# Altium footprint library Connector.PcbLib: 170 footprints (part 7 of 11)
Each footprint in its own frame and in the unit in brackets; x right, y up, seen from the top. Pads: shape width x height; smd on the part's side, far side on the other; paste and mask are expansions set on the pad; w line width, h text height; cw(c..) or ccw(c..) is an arc to the next point about the centre after c.
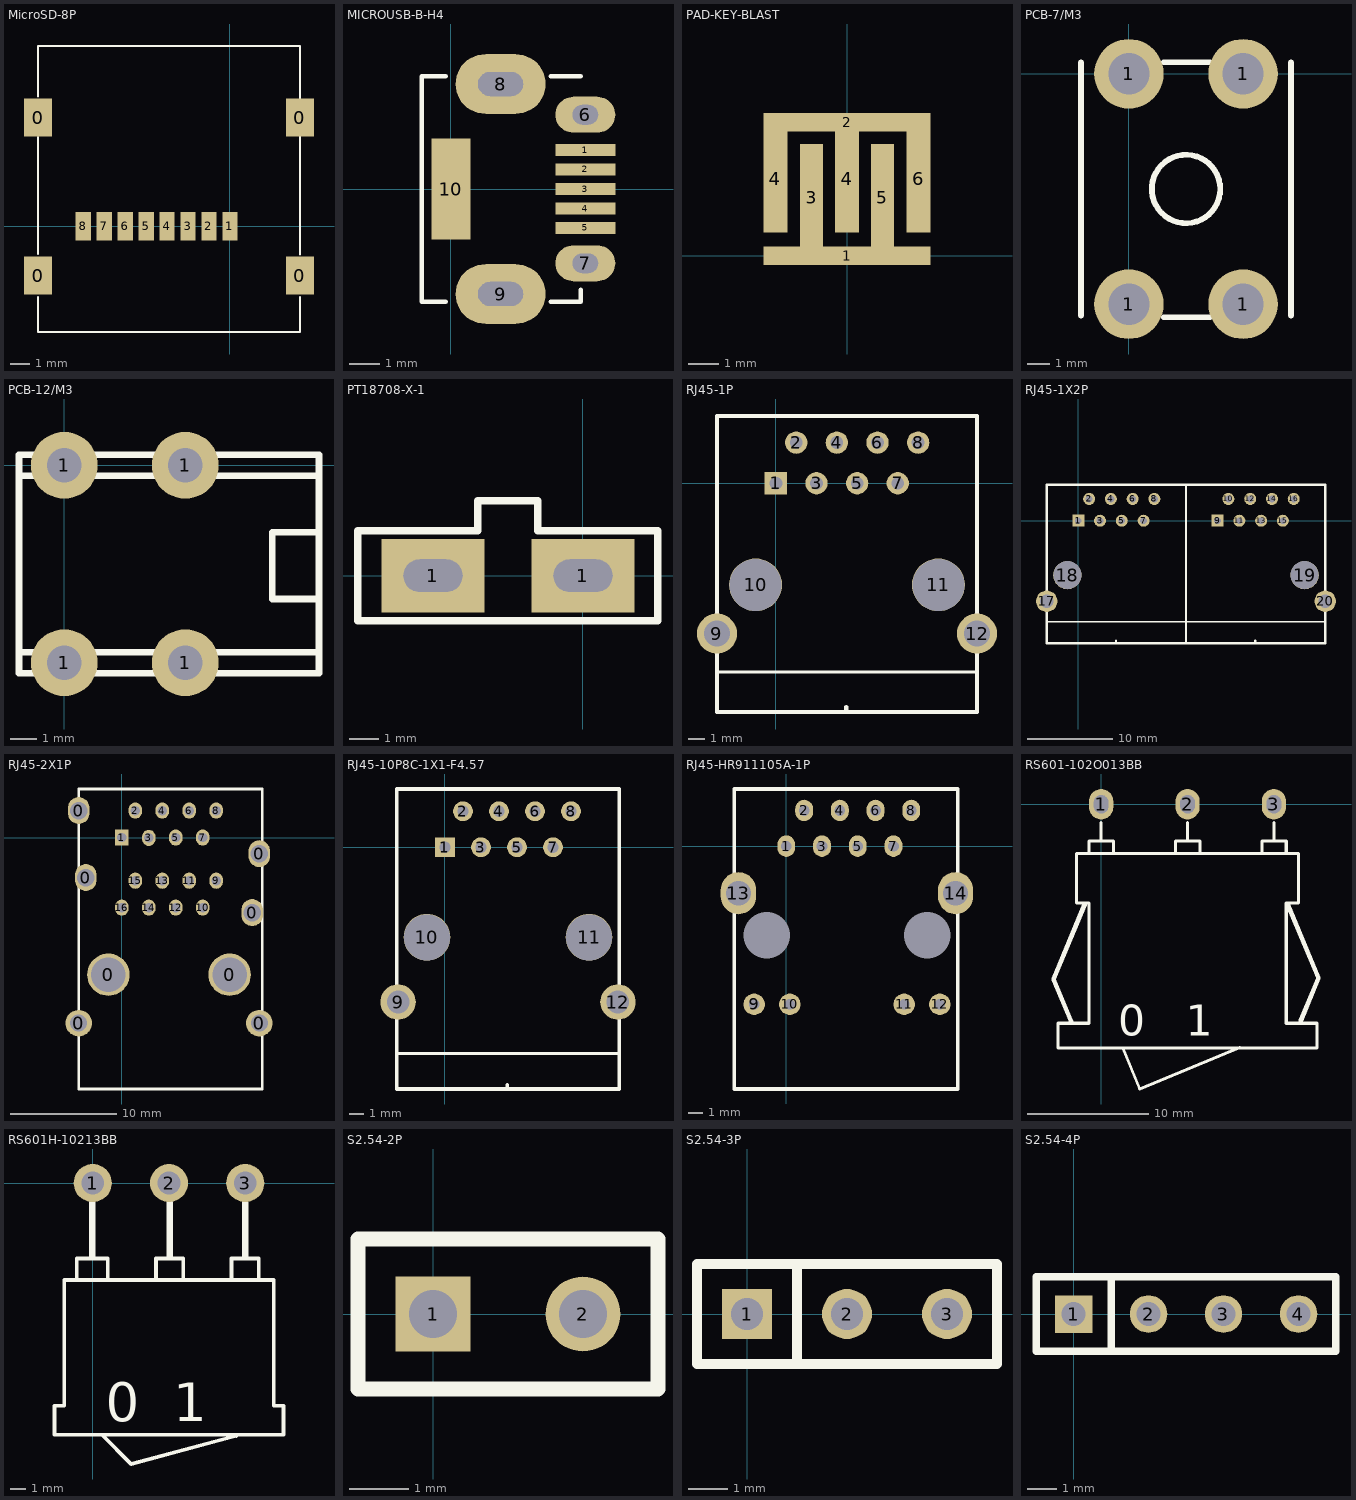
[diagram p6: the footprints below, top view; thin cyan lines are the x and y axes]

## MicroSD-8P [mm]
pads (12):
  rect 1.45x2 smd: 0(-10.075,-2.6) 0(-10.075,5.7) 0(3.675,-2.6) 0(3.675,5.7)
  rect 0.8x1.5 smd: 1(0,0) 2(-1.1,0) 3(-2.2,0) 4(-3.3,0) 5(-4.4,0) 6(-5.5,0) 7(-6.6,0) 8(-7.7,0)
Top Overlay:
  lines w0.1: -10.075,-3.725 -10.075,-5.55 3.675,-5.55 3.675,-3.716 ; -10.075,-1.473 -10.075,4.674 ; -10.075,6.816 -10.075,9.45 3.675,9.45 3.675,6.7 ; 3.675,-1.499 3.675,4.699

## MICROUSB-B-H4 [mm]
pads (10):
  rect 2x0.4 smd: 1(4.48,1.3) 2(4.48,0.65) 3(4.48,0) 4(4.48,-0.65) 5(4.48,-1.3)
  oval 2x1.2 / inner round 1.524 / far side oval 2x1.2 hole 0.65 slot 0.85 at 0 deg: 6(4.48,2.475) 7(4.48,-2.475)
  oval 3x2 / inner round 1.524 / far side oval 3x2 hole 0.8 slot 1.5 at 0 deg: 8(1.655,3.5) 9(1.655,-3.5)
  rect 1.3x3.35 smd: 10(0,0)
Top Overlay:
  lines w0.15: -0.17,-3.75 -0.97,-3.75 -0.97,3.75 -0.17,3.75 ; 3.33,-3.75 4.33,-3.75 4.33,-3.35 ; 3.33,3.75 4.33,3.75

## PAD-KEY-BLAST [mil]
pads (7):
  rect 216.54x23.62 smd: 1(0,0)
  rect 216.54x23.62 smd paste+0: 2(0,173.23)
  rect 29.5x140 smd: 3(-46,75) 5(46,75)
  rect 31x140 smd: 4(-93,100) 4(0,100) 6(93,100)
Top Solder:
  rectangle: -112.27,5 112.27,160

## PCB-7/M3 [mm] "PCB焊接端子"
pads (4):
  round 3.048 hole 1.8: 1(0,-10.1) 1(0,0) 1(5,-10.1) 1(5,0)
Top Overlay:
  circle w0.254: c2.5,-5.05 r1.5
  lines w0.254: -2.1,-10.6 -2.1,0.5 ; 1.524,-10.668 3.556,-10.668 ; 1.524,0.508 3.556,0.508 ; 7.1,-10.6 7.1,0.5
3D body: height 8.5, standoff 0, extent -2.159,-10.668 7.112,0.508

## PCB-12/M3 [mm]
pads (4):
  round 2.54 hole 1.321: 1(0,-7.5) 1(0,0) 1(4.6,-7.5) 1(4.6,0)
Top Overlay:
  lines w0.254: -1.72,-7.1 9.68,-7.1 ; -1.72,-0.4 9.68,-0.4 ; 9.68,-5.08 7.9,-5.08 7.9,-2.54 8.408,-2.54 9.68,-2.54 ; -1.72,-7.9 9.68,-7.9 9.68,0.4 -1.72,0.4 -1.72,-7.9
3D body: height 8, standoff 0, extent -1.778,-7.493 9.652,0

## PT18708-X-1 [mm]
height 22.7
pads (2):
  rect 3.5x2.5 hole 1.1 slot 2 at 0 deg: 1(-5.08,0) 1(0,0)
Top Overlay:
  lines w0.254: -7.62,-1.524 2.54,-1.524 2.54,1.524 -1.524,1.524 -1.524,2.54 -3.556,2.54 -3.556,1.524 -7.62,1.524 -7.62,-1.524
3D body: height 3, standoff 0, extent -3.429,0.635 -1.651,1.651
3D body: height 8, standoff 0, extent -5.08,-0.635 0,0.635
3D body: height 2, standoff 0, extent -6.858,-0.635 1.778,0.635

## RJ45-1P [mil] "RJ45-1"
pads (12):
  rect 55x55 hole 31.5: 1(0,0)
  round 55 hole 31.5: 2(50,100) 3(100,0) 4(150,100) 5(200,0) 6(250,100) 7(300,0) 8(350,100)
  round 98.42 hole 62.99: 9(-145,-370) 12(495,-370)
  round 130 hole 127.95 unplated: 10(-50,-250) 11(400,-250)
Top Overlay:
  lines w8: -141.73,-464.57 488.19,-464.57
  lines w10: 173.23,-559.06 173.23,-551.18 ; 495,165 495,-370 495,-562.99 -145,-562.99 -145,-370 -145,165 -144.65,165.35 495,165.35
3D body "Mod-Jack-K122449007-Stig-W.STEP": height 127.85, standoff -555.12, extent -139.92,-556.17 490,172.17

## RJ45-1X2P [mil] "RJ45-1x2"
pads (20):
  rect 55x55 hole 31.5: 1(0,0) 9(640,0)
  round 55 hole 31.5: 2(50,100) 3(100,0) 4(150,100) 5(200,0) 6(250,100) 7(300,0) 8(350,100) 10(690,100) 11(740,0) 12(790,100) 13(840,0) 14(890,100) 15(940,0) 16(990,100)
  round 98.42 hole 62.99: 17(-145,-370) 20(1135,-370)
  round 130 hole 127.95 unplated: 18(-50,-250) 19(1040,-250)
Top Overlay:
  lines w8: -141.73,-464.57 488.19,-464.57 ; 498.27,-464.57 1128.19,-464.57
  lines w10: 173.23,-559.06 173.23,-551.18 ; 495,165.35 -144.65,165.35 -145,165 -145,-370 -145,-562.99 495,-562.99 ; 813.23,-559.06 813.23,-551.18 ; 1135,165 1135,-370 1135,-562.99 495,-562.99 ; 1135,165.35 495.35,165.35 495,165 ; 495,-562.99 495,-370 ; 495,-562.99 495,-370 ; 495,-370 495,165 ; 495,-370 495,165
3D body "Mod-Jack-K122449007-Stig-W.STEP": height 127.85, standoff -555.12, extent 500.08,-556.17 1130,172.17
3D body "Mod-Jack-K122449007-Stig-W.STEP": height 127.85, standoff -555.12, extent -139.92,-556.17 490,172.17

## RJ45-2X1P [mil] "RJ45-2x1"
pads (24):
  round 98.43 hole 62.99: 0(-159.84,-688.58) 0(509.84,-688.58)
  oval 80x100 hole 65: 0(-159.84,100) 0(-133.66,-148.43) 0(483.66,-278.35) 0(509.84,-59.84)
  round 157.48 hole 127.95: 0(-50,-508.66) 0(400,-508.66)
  rect 50x60 hole 35: 1(0,0)
  oval 50x60 hole 35: 2(50,100) 3(100,-1.34) 4(150,100) 5(200,0) 6(250,100) 7(300,0) 8(350,100) 9(350,-160) 10(300,-260) 11(250,-160) 12(200,-260) 13(150,-160) 14(100,-260) 15(50,-160) 16(0,-260)
Top Overlay:
  lines w10: -159.84,-930.24 -159.84,180 520.87,180 520.87,-930.24 ; 140.16,-932.68 -159.84,-932.68 520.87,-932.68
3D body "2x1rj45.stp": height 994.09, standoff 0, extent -163.7,-925.12 517.01,185.12

## RJ45-10P8C-1X1-F4.57 [mm] "东莞迅旺 1X1 8PIN脚 非隔离不带灯XW-902-59-B-1"
pads (12):
  rect 1.397x1.397 hole 0.8: 1(0,0)
  round 1.397 hole 0.8: 2(1.27,2.54) 3(2.54,0) 4(3.81,2.54) 5(5.08,0) 6(6.35,2.54) 7(7.62,0) 8(8.89,2.54)
  round 2.5 hole 1.6: 9(-3.305,-10.92) 12(12.195,-10.92)
  round 3.302 hole 3.25 unplated: 10(-1.27,-6.35) 11(10.16,-6.35)
Top Overlay:
  lines w0.203: -3.405,-14.55 12.24,-14.55
  lines w0.254: 4.4,-16.95 4.4,-16.75 ; -3.405,4.101 -3.396,4.11 ; -3.405,4.101 -3.405,-9.398 -3.405,-17.05 12.295,-17.05 12.295,-9.398 12.295,4.11 -3.396,4.11 ; -3.405,4.101 -3.396,4.11
3D body "Mod-Jack-K122449007-Stig-W.STEP": height 3.25, standoff -14.1, extent -3.554,-14.127 12.446,4.373

## RJ45-HR911105A-1P [mil] "RJ45-HR911105A"
pads (16):
  oval 50x60 hole 30: 1(0,0) 2(50,100) 3(100,0) 4(150,100) 5(200,0) 6(250,100) 7(300,0) 8(350,100)
  round 60 hole 30: 9(-90,-442.91) 10(10,-442.91) 11(330,-442.91) 12(430,-442.91)
  oval 99.37x118.11 hole 69.37: 13(-133.94,-131.81)
  oval 98.43x118.11 hole 69.37: 14(473.94,-131.81)
  round 60 hole 129.92: ""(-55,-250) ""(395,-250)
Top Overlay:
  lines w10: -145.43,-680 -145.43,160 479.57,160 479.57,-680 -145.43,-680
3D body "Mod-Jack-K122449007-Stig-W.STEP": height 127.85, standoff -555.12, extent -140.83,-558.35 489.09,170

## RS601-102O013BB [mm]
height 0.025
pads (3):
  oval 2x2.5 hole 1.2 slot 1.5 at 91 deg: 1(0,0) 2(7.112,0) 3(14.224,0)
Top Overlay:
  lines w0.254: -0.986,-4.064 -0.986,-3.048 1.016,-3.048 1.016,-4.064 ; 0,-3.048 0,-1.524 ; 1.778,-20.066 3.179,-23.448 11.417,-20.035 ; 6.126,-4.064 6.126,-3.048 8.128,-3.048 8.128,-4.064 ; 7.112,-3.048 7.112,-1.524 ; 13.238,-4.064 13.238,-3.048 15.24,-3.048 15.24,-4.064 ; 14.224,-3.048 14.224,-1.524 ; -3.556,-20.066 -3.556,-18.034 -1.016,-18.034 -1.016,-8.128 -2.032,-8.128 -2.032,-4.064 16.256,-4.064 16.256,-8.128 15.24,-8.128 15.24,-18.034 17.78,-18.034 17.78,-20.066 -3.556,-20.066
  lines w0.381: -2.486,-17.866 -3.917,-14.413 -1.359,-8.237 ; 15.375,-8.242 17.887,-14.307 16.428,-17.83
  text "0   1" at 1.397,-19.05 h2.54

## RS601H-10213BB [mm]
height 12.5
pads (3):
  round 2.5 hole 1.5: 1(0,0) 2(5,0) 3(10,0)
Top Overlay:
  lines w0.254: -1.875,-6.35 -1.875,-14.605 -2.51,-14.605 -2.51,-16.51 12.51,-16.51 12.51,-14.605 11.875,-14.605 11.875,-6.35 ; -1.811,-6.35 11.778,-6.35 ; -1.049,-6.35 -1.049,-4.953 0.983,-4.953 0.983,-6.35 ; 0.602,-16.51 2.52,-18.428 9.409,-16.582 ; 4.158,-6.35 4.158,-4.953 5.936,-4.953 5.936,-6.35 ; 9.111,-6.35 9.111,-4.953 10.889,-4.953 10.889,-6.35
  lines w0.4: -0.033,-4.826 -0.033,-1.27 ; 5.047,-4.826 5.047,-1.27 ; 10,-4.826 10,-1.27
  text "0  1" at 0.856,-15.621 h2.54

## S2.54-2P [mil]
pads (2):
  rect 50x50 hole 32: 1(0,0)
  round 50 hole 32: 2(100,0)
Top Overlay:
  lines w10: -50,-50 -50,50 150,50 150,-50 -50,-50
3D body: height 314.96, standoff -78.74, extent 84,-16 115.37,15.43
3D body: height 314.96, standoff -78.74, extent -16,-16 15.37,15.43
3D body: height 100, standoff 0, extent -50,-50 150,50

## S2.54-3P [mil] "P-SIP5"
pads (3):
  rect 50x50 hole 32: 1(0,0)
  round 50 hole 32: 2(100,0) 3(200,0)
Top Overlay:
  lines w10: 50,-50 50,50 ; -50,-50 250,-50 250,50 -50,50 -50,-50
3D body: height 100, standoff 0, extent -50,-50 250,50
3D body: height 314.96, standoff -78.74, extent -16,-16 15.37,15.43
3D body: height 314.96, standoff -78.74, extent 84,-16 115.37,15.43
3D body: height 314.96, standoff -78.74, extent 184,-16 215.37,15.43

## S2.54-4P [mil] "P-SIP5"
pads (4):
  rect 50x50 hole 32: 1(0,0)
  round 50 hole 32: 2(100,0) 3(200,0) 4(300,0)
Top Overlay:
  lines w10: 50,-50 50,50 ; -50,-50 -50,50 350,50 350,-50 -50,-50
3D body: height 314.96, standoff -78.74, extent 284,-16 315.37,15.43
3D body: height 314.96, standoff -78.74, extent 184,-16 215.37,15.43
3D body: height 314.96, standoff -78.74, extent 84,-16 115.37,15.43
3D body: height 314.96, standoff -78.74, extent -16,-16 15.37,15.43
3D body: height 100, standoff 0, extent -50,-50 350,50